# Altium footprint library led.PcbLib: 7 footprints
Each footprint in its own frame and in the unit in brackets; x right, y up, seen from the top. Pads: shape width x height; smd on the part's side, far side on the other; paste and mask are expansions set on the pad; w line width, h text height; cw(c..) or ccw(c..) is an arc to the next point about the centre after c.
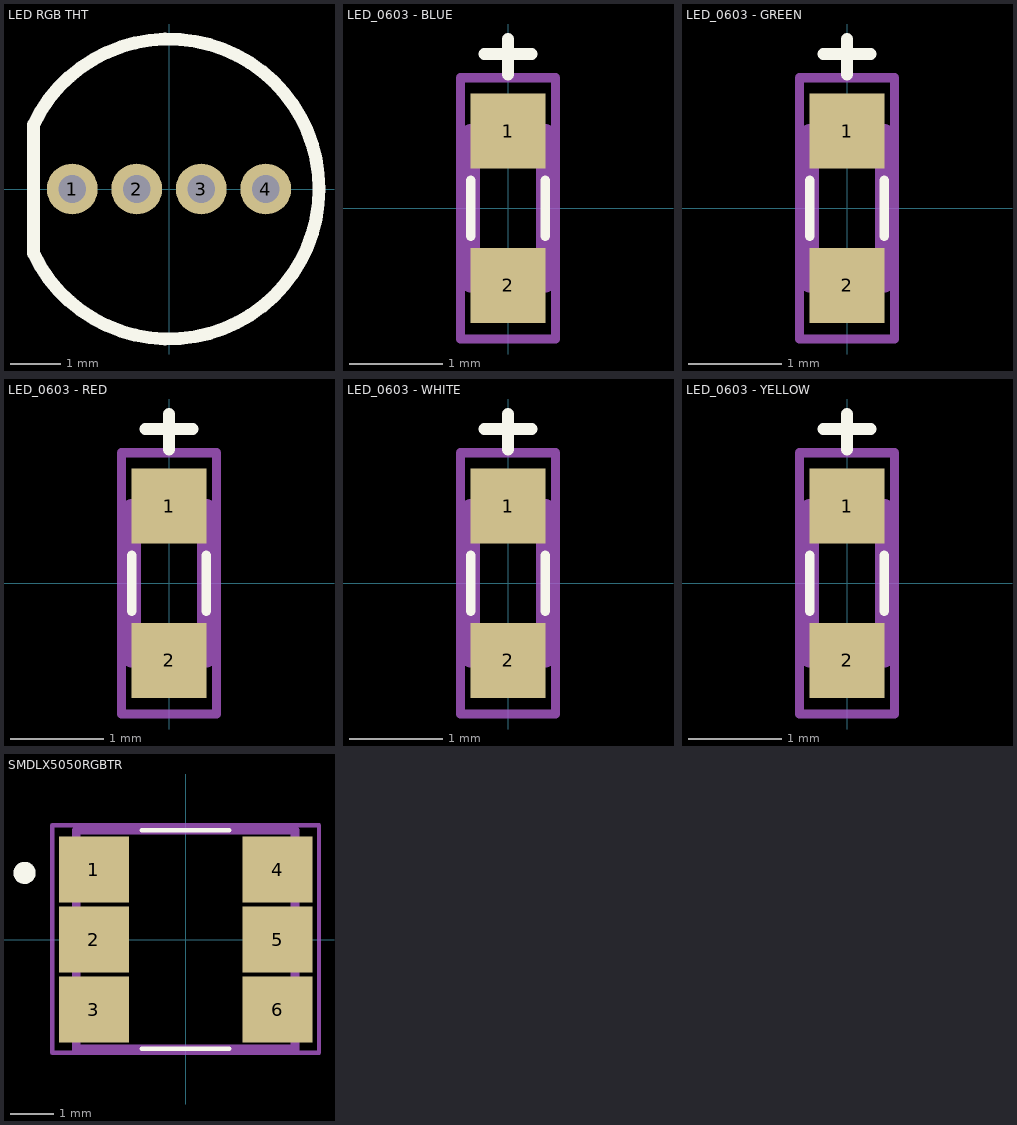
[diagram p0: the footprints below, top view; thin cyan lines are the x and y axes]

## LED RGB THT [mm]
pads (4):
  round 1 hole 0.55: 1(-1.905,0) 2(-0.635,0) 3(0.635,0) 4(1.905,0)
Top Overlay:
  lines w0.254: -2.667,-1.27 ccw(c0,0) -2.667,1.27 -2.667,-1.27
3D body "LED 5mm RGB.step": height 7.99, standoff -6.7, extent -2.6,-3 3,3

## LED_0603 - BLUE [mm]
pads (2):
  rect 0.8x0.8 smd: 1(0,0.825) 2(0,-0.825)
Top Overlay:
  lines w0.1: -0.4,-0.3 -0.4,0.3 ; 0.4,-0.3 0.4,0.3
  lines w0.127: -0.254,1.651 0.254,1.651 ; 0,1.429 0,1.524 0,1.714 0,1.81
Mechanical 13:
  lines w0.2: -0.4,-0.8 -0.4,0.8 0.4,0.8 0.4,-0.8 -0.4,-0.8
Mechanical 15:
  lines w0.1: -0.508,-1.397 0.508,-1.397 0.508,1.397 -0.508,1.397 -0.508,-1.397
3D body "LED 0603 BLUE.STEP": height 0.6, standoff 0, extent -0.4,-0.8 0.4,0.8

## LED_0603 - GREEN [mm]
pads (2):
  rect 0.8x0.8 smd: 1(0,0.825) 2(0,-0.825)
Top Overlay:
  lines w0.1: -0.4,-0.3 -0.4,0.3 ; 0.4,-0.3 0.4,0.3
  lines w0.127: -0.254,1.651 0.254,1.651 ; 0,1.429 0,1.524 0,1.714 0,1.81
Mechanical 13:
  lines w0.2: -0.4,-0.8 -0.4,0.8 0.4,0.8 0.4,-0.8 -0.4,-0.8
Mechanical 15:
  lines w0.1: -0.508,-1.397 0.508,-1.397 0.508,1.397 -0.508,1.397 -0.508,-1.397
3D body "LED 0603 GREEN.STEP": height 0.6, standoff 0, extent -0.4,-0.8 0.4,0.8

## LED_0603 - RED [mm]
pads (2):
  rect 0.8x0.8 smd: 1(0,0.825) 2(0,-0.825)
Top Overlay:
  lines w0.1: -0.4,-0.3 -0.4,0.3 ; 0.4,-0.3 0.4,0.3
  lines w0.127: -0.254,1.651 0.254,1.651 ; 0,1.429 0,1.524 0,1.714 0,1.81
Mechanical 13:
  lines w0.2: -0.4,-0.8 -0.4,0.8 0.4,0.8 0.4,-0.8 -0.4,-0.8
Mechanical 15:
  lines w0.1: -0.508,-1.397 0.508,-1.397 0.508,1.397 -0.508,1.397 -0.508,-1.397
3D body "LED 0603 RED.STEP": height 0.6, standoff 0, extent -0.4,-0.8 0.4,0.8

## LED_0603 - WHITE [mm]
pads (2):
  rect 0.8x0.8 smd: 1(0,0.825) 2(0,-0.825)
Top Overlay:
  lines w0.1: -0.4,-0.3 -0.4,0.3 ; 0.4,-0.3 0.4,0.3
  lines w0.127: -0.254,1.651 0.254,1.651 ; 0,1.429 0,1.524 0,1.714 0,1.81
Mechanical 13:
  lines w0.2: -0.4,-0.8 0.4,-0.8 0.4,0.8 -0.4,0.8 -0.4,-0.8
Mechanical 15:
  lines w0.1: -0.508,-1.397 -0.508,1.397 0.508,1.397 0.508,-1.397 -0.508,-1.397
3D body "LED 0603 WHITE.STEP": height 0.6, standoff 0, extent -0.4,-0.8 0.4,0.8

## LED_0603 - YELLOW [mm]
pads (2):
  rect 0.8x0.8 smd: 1(0,0.825) 2(0,-0.825)
Top Overlay:
  lines w0.1: -0.4,-0.3 -0.4,0.3 ; 0.4,-0.3 0.4,0.3
  lines w0.127: -0.254,1.651 0.254,1.651 ; 0,1.429 0,1.524 0,1.714 0,1.81
Mechanical 13:
  lines w0.2: -0.4,-0.8 0.4,-0.8 0.4,0.8 -0.4,0.8 -0.4,-0.8
Mechanical 15:
  lines w0.1: -0.508,-1.397 -0.508,1.397 0.508,1.397 0.508,-1.397 -0.508,-1.397
3D body "LED 0603 YELLOW.STEP": height 0.6, standoff 0, extent -0.4,-0.8 0.4,0.8

## SMDLX5050RGBTR [mm]
pads (6):
  rect 1.6x1.5 smd: 1(-2.1,1.6) 2(-2.1,0) 3(-2.1,-1.6) 4(2.1,1.6) 5(2.1,0) 6(2.1,-1.6)
Top Overlay:
  circle w0.254: c-3.683,1.524 r0.127
  lines w0.1: -1,-2.5 1,-2.5 ; -1,2.5 1,2.5
Mechanical 13:
  lines w0.2: -2.5,-2.5 -2.5,2.5 2.5,2.5 2.5,-2.5 -2.5,-2.5
Mechanical 15:
  lines w0.1: -3.048,-2.591 -3.048,2.616 3.048,2.616 3.048,-2.591 -3.048,-2.591
3D body "LED smd 5.0x5.0.step": height 1.55, standoff 0, extent -2.75,-2.551 2.75,2.449